# Altium schematic symbol library connector.SchLib: 8 symbols
Pins are listed as number, name and electrical type; pins without a type are passive.

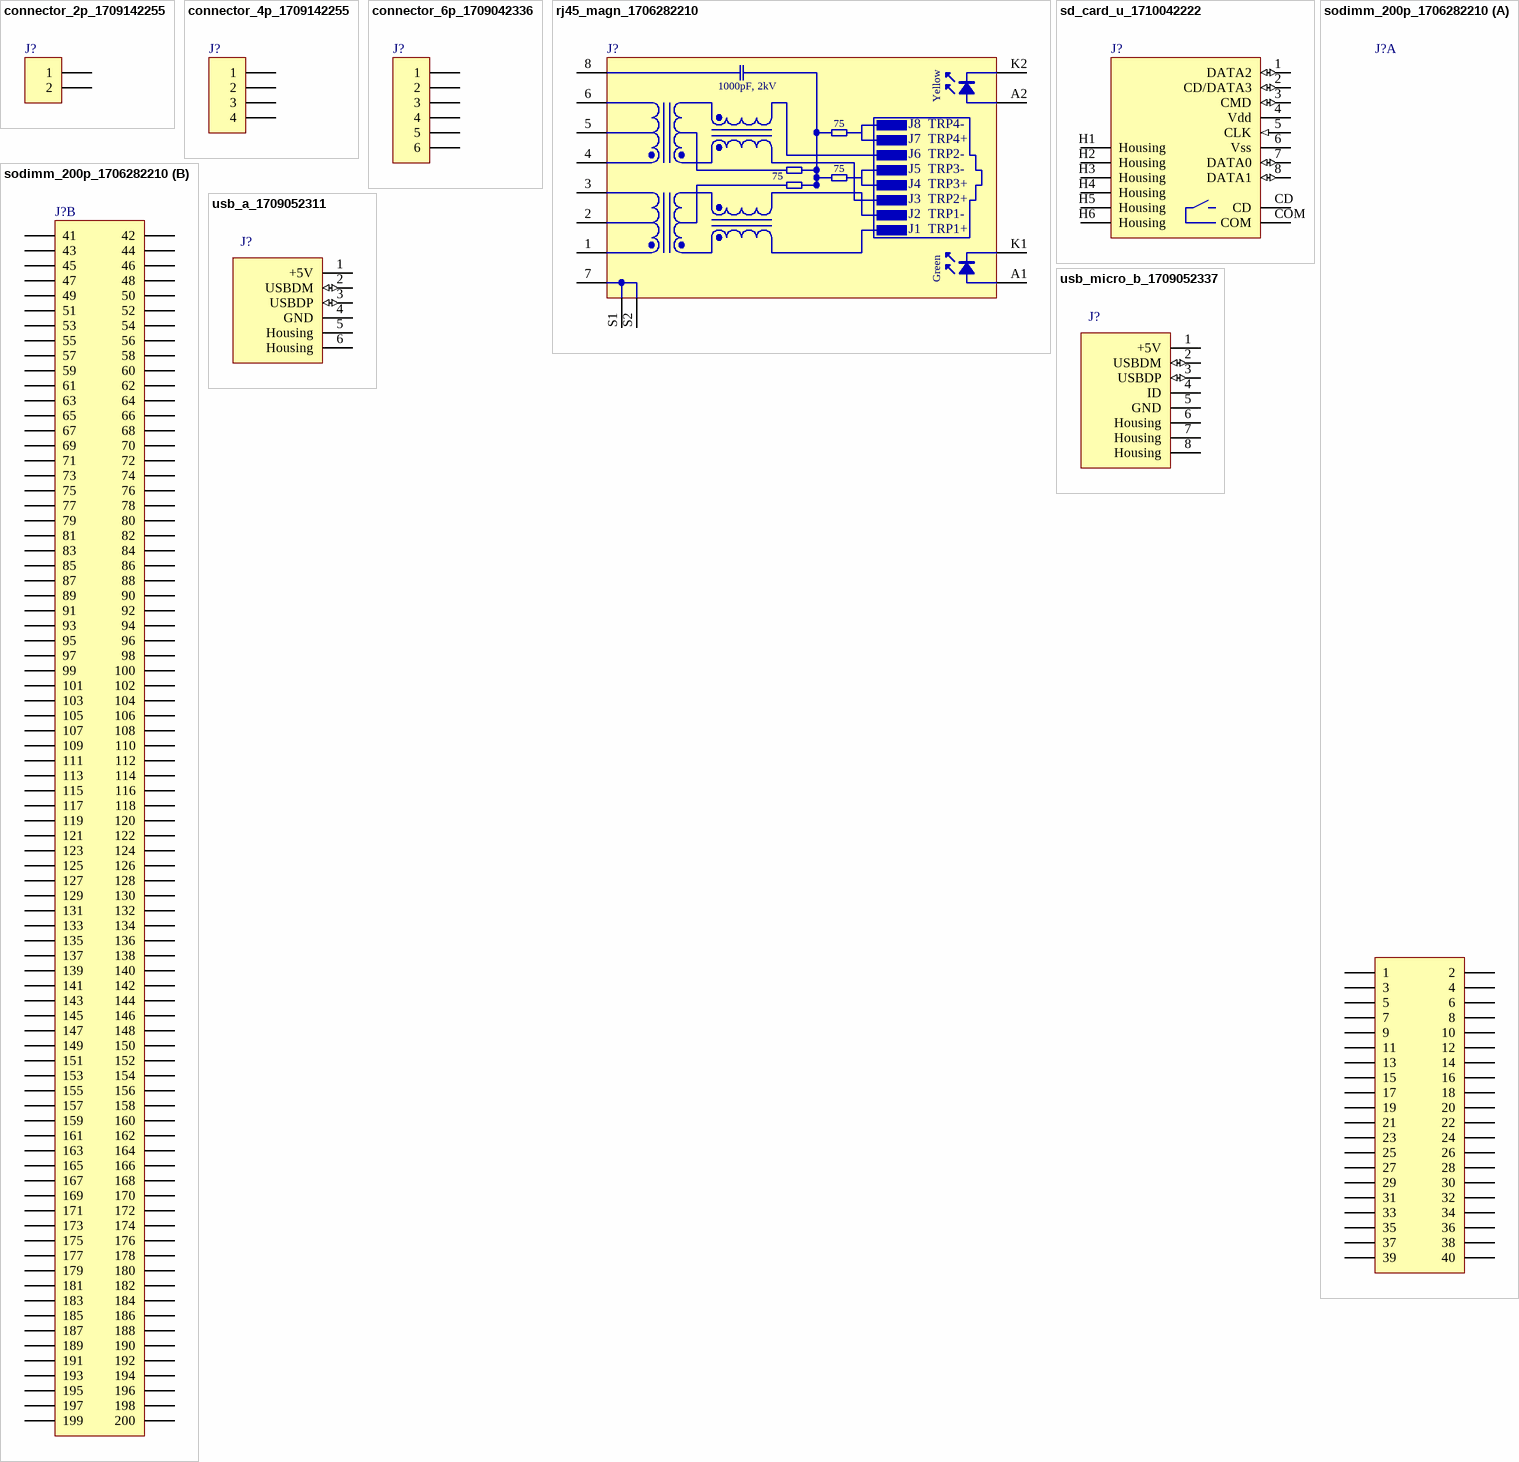
[diagram p0: symbols connector_2p_1709142255 to usb_micro_b_1709052337]

## connector_2p_1709142255
designator J?
=Description
pins: 1, 2

## connector_4p_1709142255
designator J?
=Description
pins: 1, 2, 3, 4

## connector_6p_1709042336
designator J?
=Description
pins: 1, 2, 3, 4, 5, 6

## rj45_magn_1706282210
designator J?
=Description
pins: 1 TRD1+, 2 TRCT1, 3 TRD1-, 4 TRD2+, 5 TRCT2, 6 TRD2-, 7 Shield, 8 GND (power), A1 LED1_A, A2 LED2_A, K1 LED1_K, K2 LED2_K, S1 Shield, S2 Shield
text: 1000pF, 2kV; Yellow; 75; J8; TRP4-; J7; TRP4+; J6; TRP2-; J5; TRP3-; J4; TRP3+; J3; TRP2+; J2; TRP1-; J1; TRP1+; Green

## sd_card_u_1710042222
designator J?
=Description
pins: 1 DATA2 (io), 2 CD/DATA3 (io), 3 CMD (io), 4 Vdd (power), 5 CLK (in), 6 Vss (power), 7 DATA0 (io), 8 DATA1 (io), CD, COM, H1 Housing, H2 Housing, H3 Housing, H4 Housing, H5 Housing, H6 Housing

## sodimm_200p_1706282210
designator J?
=Description
part A pins: 1, 2 3, 2, 4 5, 4, 6 7, 6, 8 9, 8, 10 11, 10, 12 13, 12, 14 15, 14, 16 17, 16, 18 19, 18, 20 21, 20, 22 23, 22, 24 25, 24, 26 27, 26, 28 29, 28, 30 31, 30, 32 33, 32, 34 35, 34, 36 37, 36, 38 39, 38, 40
part B pins: 41, 42, 43, 44, 45, 46, 47, 48, 49, 50, 51, 52, 53, 54, 55, 56, 57, 58, 59, 60, 61, 62, 63, 64, 65, 66, 67, 68, 69, 70, 71, 72, 73, 74, 75, 76, 77, 78, 79, 80, 81, 82, 83, 84, 85, 86, 87, 88, 89, 90, 91, 92, 93, 94, 95, 96, 97, 98, 99, 100, 101, 102, 103, 104, 105, 106, 107, 108, 109, 110, 111, 112, 113, 114, 115, 116, 117, 118, 119, 120, 121, 122, 123, 124, 125, 126, 127, 128, 129, 130, 131, 132, 133, 134, 135, 136, 137, 138, 139, 140, 141, 142, 143, 144, 145, 146, 147, 148, 149, 150, 151, 152, 153, 154, 155, 156, 157, 158, 159, 160, 161, 162, 163, 164, 165, 166, 167, 168, 169, 170, 171, 172, 173, 174, 175, 176, 177, 178, 179, 180, 181, 182, 183, 184, 185, 186, 187, 188, 189, 190, 191, 192, 193, 194, 195, 196, 197, 198, 199, 200

## usb_a_1709052311
designator J?
=Description
pins: 1 +5V (power), 2 USBDM (io), 3 USBDP (io), 4 GND (power), 5 Housing (power), 6 Housing (power)

## usb_micro_b_1709052337
designator J?
=Description
pins: 1 +5V (power), 2 USBDM (io), 3 USBDP (io), 4 ID, 5 GND (power), 6 Housing (power), 7 Housing (power), 8 Housing (power)